# Altium footprint library HDMI.PcbLib: 1 footprints
Each footprint in its own frame and in the unit in brackets; x right, y up, seen from the top. Pads: shape width x height; smd on the part's side, far side on the other; paste and mask are expansions set on the pad; w line width, h text height; cw(c..) or ccw(c..) is an arc to the next point about the centre after c.
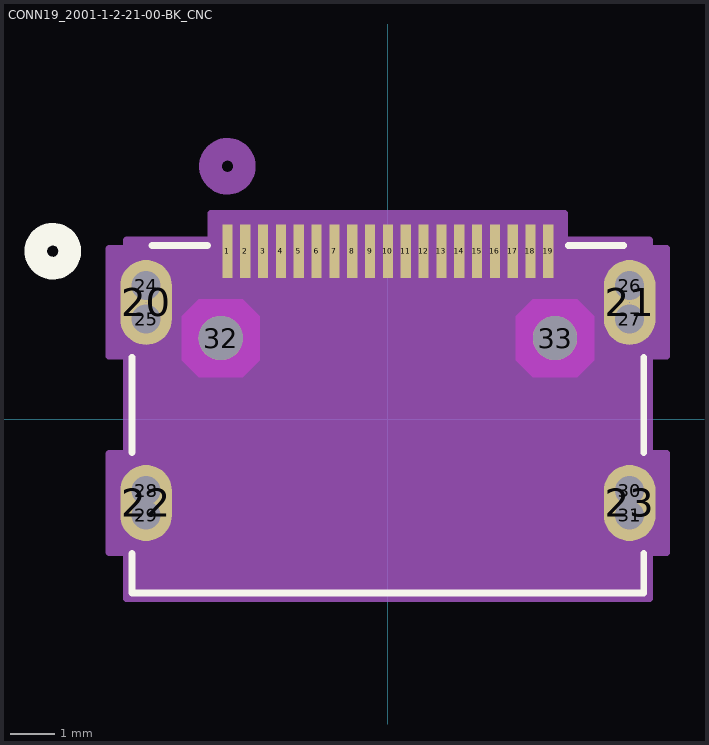
[diagram p0: the footprint, top view; thin cyan lines are the x and y axes]

## CONN19_2001-1-2-21-00-BK_CNC [mil]
pads (33):
  rect 9x47 smd paste+0 mask+0: 1(-141.73,148.5) 2(-125.98,148.5) 3(-110.24,148.5) 4(-94.49,148.5) 5(-78.74,148.5) 6(-62.99,148.5) 7(-47.24,148.5) 8(-31.5,148.5) 9(-15.75,148.5) 10(0,148.5) 11(15.75,148.5) 12(31.5,148.5) 13(47.24,148.5) 14(62.99,148.5) 15(78.74,148.5) 16(94.49,148.5) 17(110.24,148.5) 18(125.98,148.5) 19(141.73,148.5)
  oval 45.59x75.12 / inner round 60 / far side oval 45.59x75.12 hole 1 paste-99999 mask+0: 20(-213.58,103.22) 21(213.58,103.22)
  oval 45.59x67.24 / inner round 60 / far side oval 45.59x67.24 hole 1 paste-99999 mask+0: 22(-213.58,-73.94) 23(213.58,-73.94)
  round 25.59 / inner round 60 / far side round 25.59 hole 25.59 unplated paste-99999 mask-13: 24(-213.58,117.99) 25(-213.58,88.46) 26(213.58,117.99) 27(213.58,88.46) 28(-213.58,-63.11) 29(-213.58,-84.77) 30(213.58,-63.11) 31(213.58,-84.77)
  round 39 / inner round 60 / far side round 39 hole 39 unplated paste-99999 mask-19.5: 32(-147.64,71.73) 33(147.64,71.73)
Top Overlay:
  circle w20: c-296,148.5 r15
  lines w6: -226,-118.45 -226,-153.5 226,-153.5 226,-118.45 ; -226,-29.44 -226,54.78 ; -208.35,153.5 -159.33,153.5 ; 159.33,153.5 208.35,153.5 ; 226,-29.44 226,54.78
Bottom Overlay:
  circle w20: c-296,148.5 r15
Keep-Out Layer:
  region: 167.14,37.23 182.14,52.23 182.14,91.23 167.14,106.23 128.14,106.23 113.14,91.23 113.14,52.23 128.14,37.23
  region: -167.14,37.23 -182.14,52.23 -182.14,91.23 -167.14,106.23 -128.14,106.23 -113.14,91.23 -113.14,52.23 -128.14,37.23
Mechanical 13:
  circle w20: c-141.73,223.5 r15
  lines w1: -221,-148.5 -221,148.5 221,148.5 221,-148.5 -221,-148.5
Mechanical 15:
  region: -231,150.78 -246.38,150.78 -246.38,55.67 -231,55.67 -231,-30.32 -246.38,-30.32 -246.38,-117.56 -231,-117.56 -231,-158.5 231,-158.5 231,-117.56 246.38,-117.56 246.38,-30.32 231,-30.32 231,55.67 246.38,55.67 246.38,150.78 231,150.78 231,158.5 156.23,158.5 156.23,182 -156.23,182 -156.23,158.5 -231,158.5
  lines w6: -246.38,-117.56 -231,-117.56 -231,-158.5 231,-158.5 231,-117.56 246.38,-117.56 246.38,-30.32 231,-30.32 231,55.67 246.38,55.67 246.38,150.78 231,150.78 231,158.5 156.23,158.5 156.23,182 -156.23,182 -156.23,158.5 -231,158.5 -231,150.78 -246.38,150.78 -246.38,55.67 -231,55.67 -231,-30.32 -246.38,-30.32 -246.38,-117.56
Multi-Layer:
  lines w25.59: -213.58,-84.77 -213.58,-63.11 ; -213.58,88.46 -213.58,117.99 ; 213.58,-84.77 213.58,-63.11 ; 213.58,88.46 213.58,117.99